# Altium footprint library PcbLib1_of_zj.PcbLib: 39 footprints (part 3 of 3)
Each footprint in its own frame and in the unit in brackets; x right, y up, seen from the top. Pads: shape width x height; smd on the part's side, far side on the other; paste and mask are expansions set on the pad; w line width, h text height; cw(c..) or ccw(c..) is an arc to the next point about the centre after c.
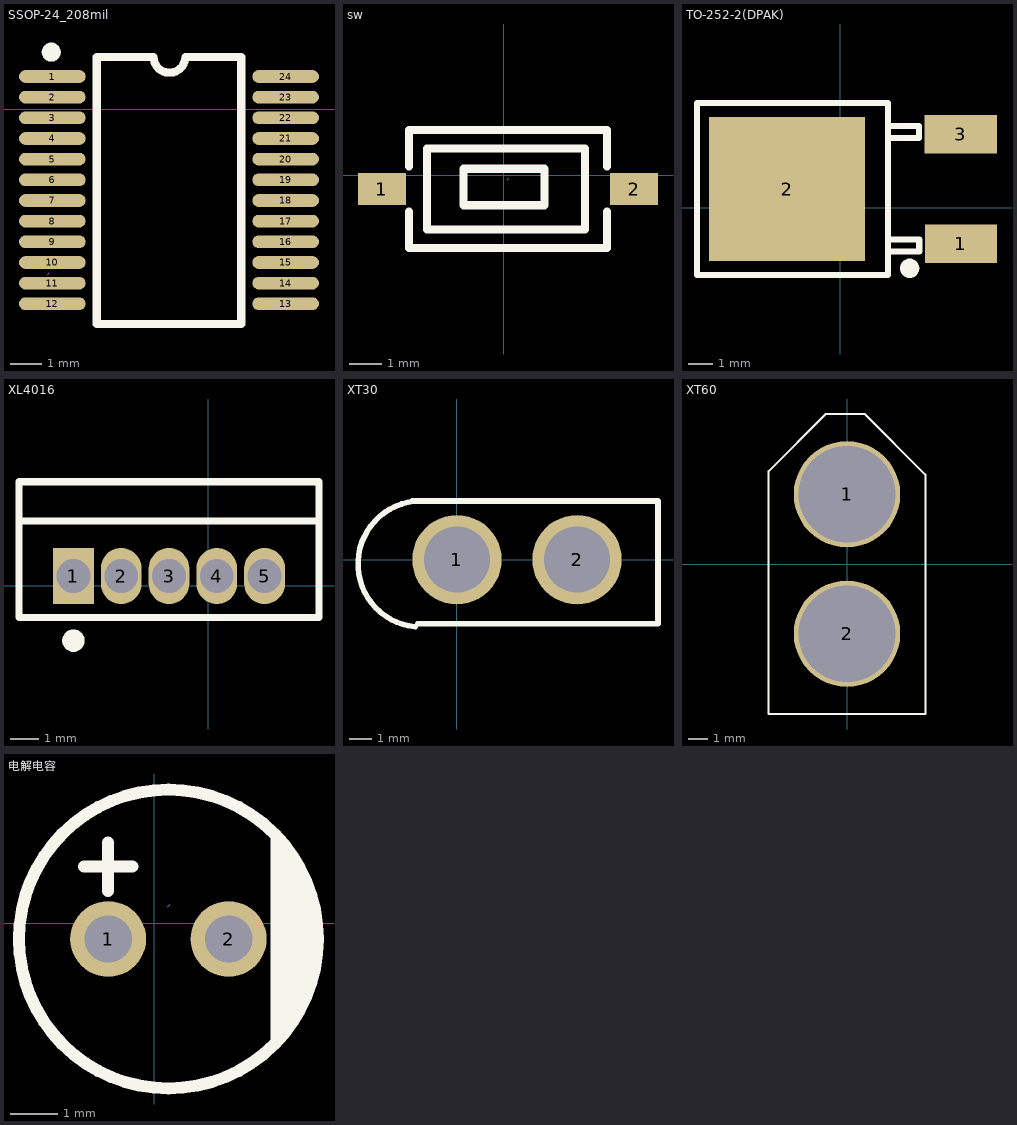
[diagram p2: the footprints below, top view; thin cyan lines are the x and y axes]

## SSOP-24_208mil [mil] "LTC3780对应封装"
pads (24):
  oval 82.56x15.75 smd: 1(190.5,40.7) 2(190.5,15.2) 3(190.5,-10.4) 4(190.5,-36) 5(190.5,-61.6) 6(190.5,-87.2) 7(190.5,-112.8) 8(190.5,-138.4) 9(190.5,-164) 10(190.5,-189.6) 11(190.5,-215.2) 12(190.5,-240.7) 13(479.5,-240.7) 14(479.5,-215.2) 15(479.5,-189.6) 16(479.5,-164) 17(479.5,-138.4) 18(479.5,-112.8) 19(479.5,-87.2) 20(479.5,-61.6) 21(479.5,-36) 22(479.5,-10.4) 23(479.5,15.2) 24(479.5,40.7)
Top Overlay:
  lines w10: 315.82,65.05 245.5,65.05 245.5,-265.65 424.5,-265.65 424.5,65.05 355.19,65.05 ; 315.8,65.1 ccw(c335.5,65.1) 355.2,65.1
  lines w11.81: 195.1,70.8 cw(c189.19,70.85) 195.1,70.9
Mechanical 15:
  lines w0.1: 184.78,-204.57 186.78,-202.57

## sw [mm]
pads (2):
  rect 1.5x1 smd: 1(-3.822,-0.436) 2(4.078,-0.436)
Top Overlay:
  lines w0.254: -2.972,-1.144 -2.972,-2.286 3.228,-2.286 3.228,-1.144 ; -2.972,0.272 -2.972,1.414 3.228,1.414 3.228,0.272 ; -2.412,-1.706 2.541,-1.706 2.541,0.834 -2.412,0.834 -2.412,-1.706 ; -1.269,-0.944 -1.269,0.199 1.271,0.199 1.271,-0.944 -1.269,-0.944
Mechanical 15:
  lines w0.003: 0.103,-0.148 0.153,-0.097
3D body "User Library-Tact switch 1181_3.STEP": height 2.4, standoff -0.1, extent -3.9,-2.2 4.1,1.4

## TO-252-2(DPAK) [mil] "AOD4184"
pads (3):
  rect 118.1x63 smd: 1(197.48,-59.29)
  rect 255.9x236.2 smd: 2(-87.32,30.67)
  rect 118.2x63 smd: 3(197.23,120.63)
Top Overlay:
  lines w10: 77.83,114.23 129.01,114.23 129.01,133.92 77.83,133.92 ; 77.99,-71.69 129.17,-71.69 129.17,-52.01 77.99,-52.01 ; -235,-110 77.99,-110 77.99,171.34 -235,171.34 -235,-110
  lines w15.75: 113.43,-91.33 ccw(c113.48,-99.2) 113.53,-91.33
Mechanical 15:
  lines w0.1: 7.26,35.59 9.26,37.59
3D body "CircuitWorks-TO-252.STEP": height 90.55, standoff 0, extent -197.9,-98.03 183.99,161.02

## XL4016 [mm]
pads (5):
  rect 1.45x2 hole 1.2: 1(-4.796,0.341)
  oval 1.45x1.999 hole 1.2: 2(-3.096,0.341) 3(-1.396,0.341) 4(0.304,0.341) 5(2.004,0.341)
Top Overlay:
  lines w0.254: -6.731,2.296 3.939,2.296 ; -6.731,-1.134 -6.731,3.696 3.939,3.696 3.939,-1.134 -6.731,-1.134
  lines w0.4: -4.796,-1.759 ccw(c-4.795,-1.959) -4.793,-1.759
Mechanical 15:
  lines w0.003: -1.421,1.066 -1.371,1.117

## XT30 [mm]
pads (2):
  round 4.067 hole 3: 1(0,0) 2(5.461,0)
Top Overlay:
  lines w0.254: -2.032,2.667 9.144,2.667 9.144,-2.921 -1.778,-2.921 ; -1.905,-3.05 cw(c-1.638,-0.198) -1.651,2.667
3D body "User Library-XT30PW-M.STEP": height 5, standoff -2, extent -3.95,-13 9.35,0.95

## XT60 [mm]
pads (2):
  round 5.5 hole 5: 1(0,3.6) 2(0,-3.6)
Top Overlay:
  lines w0.1: -4.05,-7.75 -4.05,4.8 -1.1,7.75 0.92,7.75 4.05,4.62 4.05,-7.75 -4.05,-7.75

## 电解电容 [mm]
pads (2):
  round 1.6 hole 1: 1(-0.968,-0.333) 2(1.572,-0.333)
Top Overlay:
  circle w0.254: c0.302,-0.333 r3.15
  region: 2.461,1.953 2.62,1.809 2.896,1.479 3.124,1.114 3.298,0.721 3.417,0.307 3.477,-0.118 3.477,-0.548 3.417,-0.974 3.298,-1.388 3.124,-1.781 2.896,-2.146 2.62,-2.475 2.461,-2.619
  lines w0.254: -1.476,1.191 -0.46,1.191 ; -0.968,0.683 -0.968,1.699
Mechanical 15:
  lines w0.003: 0.289,0.349 0.34,0.4
3D body "User Library-CAPAER_D063_L110_P025_W005X030.STEP": height 11.01, standoff -3, extent -2.71,-3.25 3.6,3.05